# Altium footprint library 36003500S.PcbLib: 1 footprints
Each footprint in its own frame and in the unit in brackets; x right, y up, seen from the top. Pads: shape width x height; smd on the part's side, far side on the other; paste and mask are expansions set on the pad; w line width, h text height; cw(c..) or ccw(c..) is an arc to the next point about the centre after c.
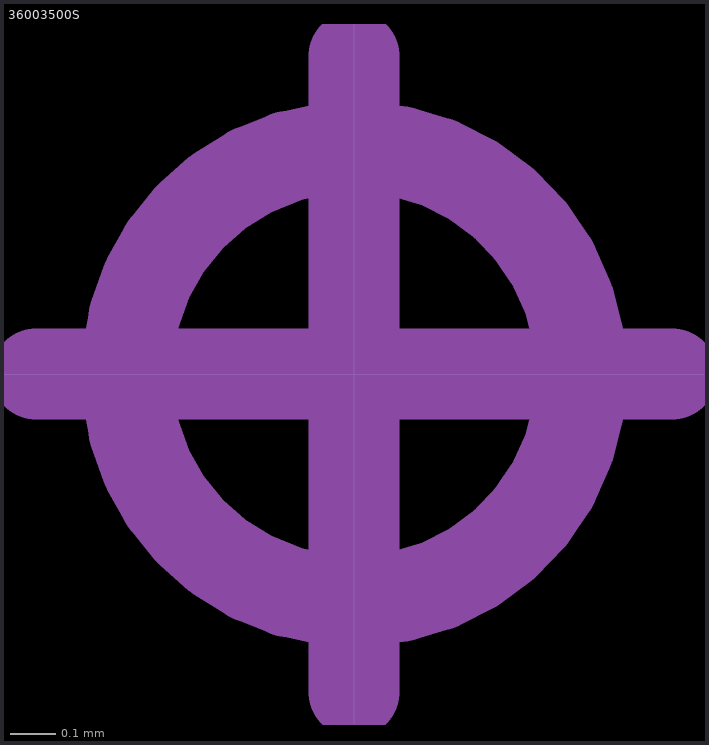
[diagram p0: the footprint, top view; thin cyan lines are the x and y axes]

## 36003500S [mm]
Mechanical 1:
  circle w0.2: c0,0 r0.5
  lines w0.2: -0.7,0 0.7,0 ; 0,-0.7 0,0.7
3D body "Download_STP_WE-SHC-36003500S (rev1).stp": height 3.5, standoff 1.5, extent -25.43,-25.43 25.43,25.43